# Altium footprint library AltiumDesigner.PcbLib: 2 footprints
Each footprint in its own frame and in the unit in brackets; x right, y up, seen from the top. Pads: shape width x height; smd on the part's side, far side on the other; paste and mask are expansions set on the pad; w line width, h text height; cw(c..) or ccw(c..) is an arc to the next point about the centre after c.
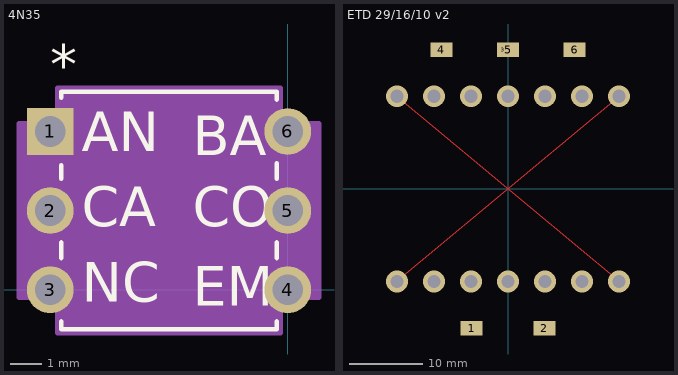
[diagram p0: the footprints below, top view; thin cyan lines are the x and y axes]

## 4N35 [mil]
pads (6):
  rect 59x59 / inner round 60 / far side rect 59x59 hole 39 paste+0 mask+0: 1(-300,200)
  round 59 / inner round 60 / far side round 59 hole 39 paste+0 mask+0: 2(-300,100) 3(-300,0) 4(0,0) 5(0,100) 6(0,200)
Top Overlay:
  lines w6: -286,-40.23 -286,-50 -14,-50 -14,-40.23 ; -286,40.23 -286,59.77 ; -286,140.23 -286,157.4 ; -286,242.6 -286,250 -14,250 -14,240.23 ; -14,40.23 -14,59.77 ; -14,140.23 -14,159.77
  text "*" at -300,259.5 h50
  text "AN" at -260,175 h50
  text "CA" at -260,80 h50
  text "NC" at -260,-15 h50
  text "BA" at -120,170 h50
  text "CO" at -120,80 h50
  text "EM" at -120,-20 h50
Mechanical 13:
  lines w0: -162,245 ccw(c-150,245) -138,245
  lines w1: -319.5,-19.5 -319.5,19.5 -281,19.5 -281,-19.5 -319.5,-19.5 ; -319.5,80.5 -319.5,119.5 -281,119.5 -281,80.5 -319.5,80.5 ; -319.5,180.5 -319.5,219.5 -281,219.5 -281,180.5 -319.5,180.5 ; -281,-45 -19,-45 -19,245 -281,245 -281,-45 ; -19,-19.5 -19,19.5 19.5,19.5 19.5,-19.5 -19,-19.5 ; -19,80.5 -19,119.5 19.5,119.5 19.5,80.5 -19,80.5 ; -19,180.5 -19,219.5 19.5,219.5 19.5,180.5 -19,180.5
  text "*" at -271,200 h50
Mechanical 15:
  region: -9,-10 39.5,-10 39.5,210 -9,210 -9,255 -291,255 -291,210 -339.5,210 -339.5,-10 -291,-10 -291,-55 -9,-55
  lines w6: -339.5,-10 -339.5,210 -291,210 -291,255 -9,255 -9,210 39.5,210 39.5,-10 -9,-10 -9,-55 -291,-55 -291,-10 -339.5,-10
3D body: height 10, standoff 0, extent 0,0 10,10

## ETD 29/16/10 v2 [mm]
pads (6):
  rect 3x2 smd: 1(-5,-19.111) 2(5,-19.111) 4(-9.144,19.05) 5(0,19.05) 6(9.144,19.05)
  rect 1x1 smd paste+0 mask+0.102: 3(-0.635,19.05)
via -15.24,12.7 diameter 3 hole 1.8
via -10.16,12.7 diameter 3 hole 1.8
via -5.08,12.7 diameter 3 hole 1.8
via 0,12.7 diameter 3 hole 1.8
via 5.08,12.7 diameter 3 hole 1.8
via 15.24,12.7 diameter 3 hole 1.8
via 10.16,12.7 diameter 3 hole 1.8
via 10.16,-12.7 diameter 3 hole 1.8
via 15.24,-12.7 diameter 3 hole 1.8
via 5.08,-12.7 diameter 3 hole 1.8
via 0,-12.7 diameter 3 hole 1.8
via -5.08,-12.7 diameter 3 hole 1.8
via -10.16,-12.7 diameter 3 hole 1.8
via -15.24,-12.7 diameter 3 hole 1.8
Top Layer:
  lines w0.05: -15.24,-12.7 15.24,12.7 ; -15.24,12.7 15.24,-12.7
  text "VCC_SEC" at 7.112,18.034 h0.75
  text "OUT_GND" at -2.159,17.907 h0.75
  text "OUT+" at -11.43,18.034 h0.75
  text "magnetic axis horizontal" at -2.794,-8.382 h0.75
  text "PRI+" at -7.366,-20.701 h0.75
  text "PRI-" at 2.794,-20.955 h0.75
3D body: height 25, standoff 0.5, extent -17.6,-17.5 17.6,17.6